# EAGLE library part USBTOUART (library ME433)
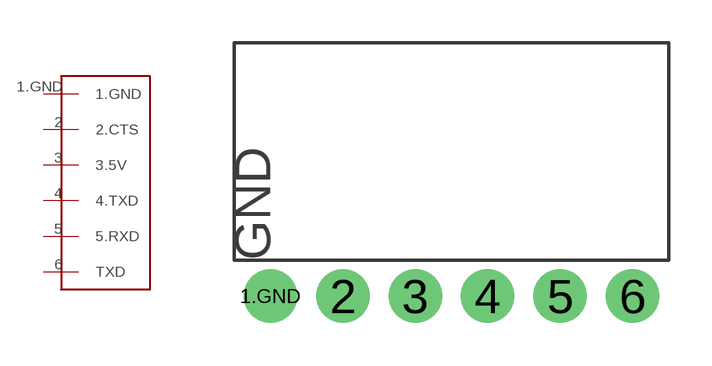
[diagram p7: symbol with the pads of USBTOUART; footprint USBTOUART]

Designator prefix -

## USBTOUART  [USBTOUART]
1.GND  1.GND
2  2.CTS
3  3.5V
4  4.TXD
5  5.RXD
6  TXD

## Footprint USBTOUART (pad centres in mm)
drill 1.016 pad 1.88: 1.GND -6.35,0; 2 -3.81,0; 3 -1.27,0; 4 1.27,0; 5 3.81,0; 6 6.35,0